# Altium footprint library PCB - OPTOISOLATOR - EVERLIGHT EL3H7 TA-VG.PcbLib: 1 footprints
Each footprint in its own frame and in the unit in brackets; x right, y up, seen from the top. Pads: shape width x height; smd on the part's side, far side on the other; paste and mask are expansions set on the pad; w line width, h text height; cw(c..) or ccw(c..) is an arc to the next point about the centre after c.
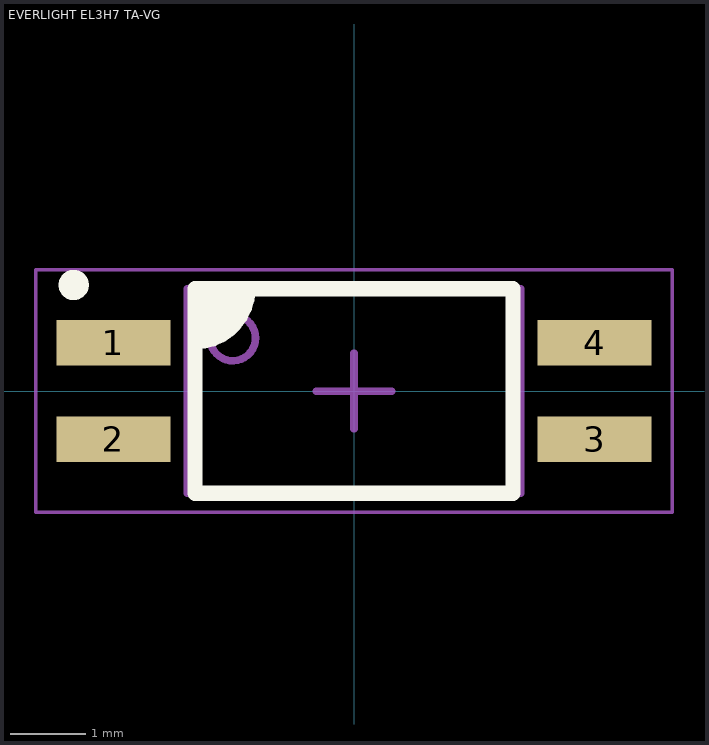
[diagram p0: the footprint, top view; thin cyan lines are the x and y axes]

## EVERLIGHT EL3H7 TA-VG [mm] "Optoisolator Transistor Output 3750Vrms 1 Channel, 1.27mm Pitch, 4.4x2.7 mm Body, 4-SSOP Package"
height 2
pads (4):
  rect 1.5x0.6 smd: 1(-3.175,0.635) 2(-3.175,-0.635) 3(3.175,-0.635) 4(3.175,0.635)
Top Overlay:
  circle w0.2: c-3.7,1.4 r0.1
  region: -2.1,1.4 -2.098,1.38 -2.083,1.344 -2.056,1.317 -2.02,1.302 -2,1.3 -1.4,1.3 -1.4,1.181 -1.491,0.96 -1.66,0.791 -1.881,0.7 -2,0.7 -2.1,0.7
  lines w0.2: -2.1,0.65 ccw(c-2.1,1.35) -1.4,1.329 ; -2.1,-1.35 -2.1,1.35 0,1.35 2.1,1.35 2.1,-1.35 0,-1.35 -2.1,-1.35
Mechanical 13:
  circle w0.1: c-1.6,0.7 r0.3
  lines w0.1: -2.2,1.35 -2.2,-1.35 0,-1.35 2.2,-1.35 2.2,1.35 ; -2.2,1.35 -2.2,1.35 ; -2.2,1.35 0,1.35 2.2,1.35 ; 2.2,1.35 2.2,1.35
Mechanical 15 (Mech15):
  lines w0.05: -4.2,-1.6 -4.2,1.6 4.2,1.6 4.2,-1.6 -4.2,-1.6
  lines w0.1: -0.5,0 0,0 ; 0,-0.5 0,0 ; 0,0.5 0,0 ; 0.5,0 0,0
3D body "Everlight - SSOP-4 v2.step": height 2, standoff 0, extent -3.5,-1.35 3.5,1.35